# EAGLE library part PS_EMS-D506 (library 1A-meinLib)
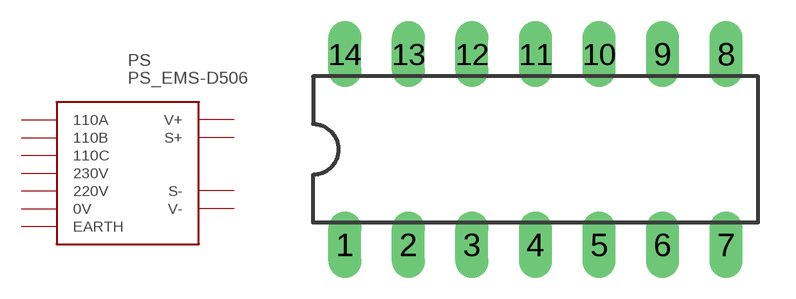
[diagram p18: symbol with the pads of DIL14; footprint DIL14]

Designator prefix PS

## PS_EMS-D506  [DIL14]
1  110A  pas
2  110B  pas
3  110C  pas
4  230V  pas
5  220V  pas
6  0V  pas
7  S+  pas
8  S-  pas
9  V+  pas
10  V-  pas
11  EARTH  pas

## Footprint DIL14 (pad centres in mm)
Dual In Line Package
drill 0.813 long: 1 -7.62,-3.81; 2 -5.08,-3.81; 3 -2.54,-3.81; 4 0,-3.81; 5 2.54,-3.81; 6 5.08,-3.81; 7 7.62,-3.81; 8 7.62,3.81; 9 5.08,3.81; 10 2.54,3.81; 11 0,3.81; 12 -2.54,3.81; 13 -5.08,3.81; 14 -7.62,3.81